# EAGLE library part INGENUITYMICRO_GHI_2X5_1.27MM (library Level)
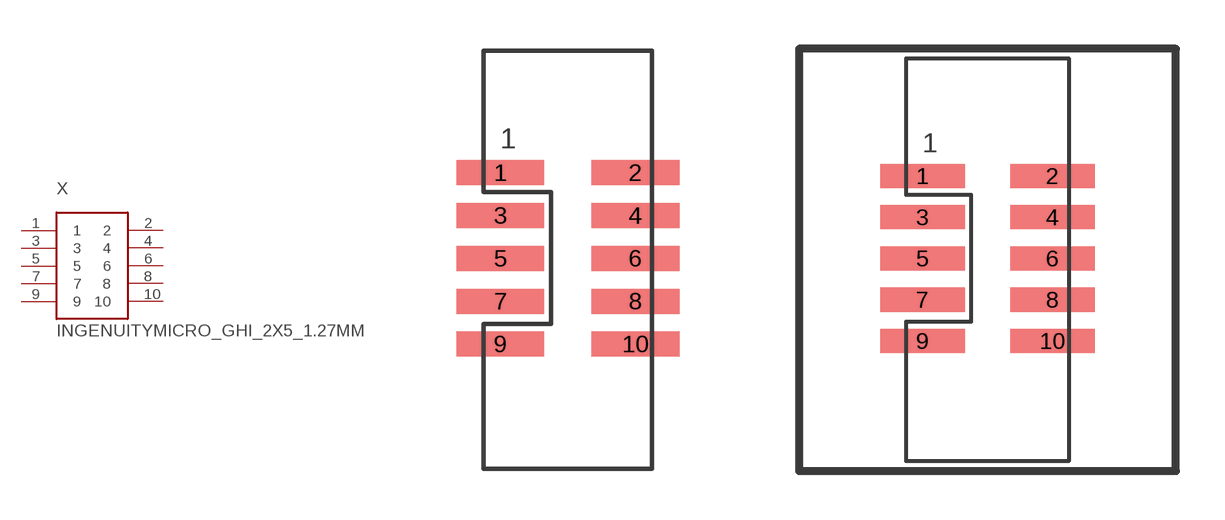
[diagram p0: symbol with the pads of INGENUITYMICRO_GHI_2X5_1.27MM; footprints INGENUITYMICRO_GHI_2X5_1.27MM, INGENUITYMICRO_GHI_2X5_1.27MM_FRAME]

Designator prefix X

## INGENUITYMICRO_GHI_2X5_1.27MM  [INGENUITYMICRO_GHI_2X5_1.27MM]
1  1
2  2
3  3
4  4
5  5
6  6
7  7
8  8
9  9
10  10

## INGENUITYMICRO_GHI_2X5_1.27MMFRAME  [INGENUITYMICRO_GHI_2X5_1.27MM_FRAME]
Pads as for INGENUITYMICRO_GHI_2X5_1.27MM

## Footprint INGENUITYMICRO_GHI_2X5_1.27MM (pad centres in mm)
smd 2.6 x 0.74: 1 -2,2.58; 2 2,2.58; 3 -2,1.31; 4 2,1.31; 5 -2,0.04; 6 2,0.04; 7 -2,-1.23; 8 2,-1.23; 9 -2,-2.5; 10 2,-2.5

## Footprint INGENUITYMICRO_GHI_2X5_1.27MM_FRAME (pad centres in mm)
smd 2.6 x 0.74: 1 -2,2.58; 2 2,2.58; 3 -2,1.31; 4 2,1.31; 5 -2,0.04; 6 2,0.04; 7 -2,-1.23; 8 2,-1.23; 9 -2,-2.5; 10 2,-2.5